# Altium schematic symbol library RF_Coupler.SchLib: 6 symbols
Pins are listed as number, name and electrical type; pins without a type are passive.

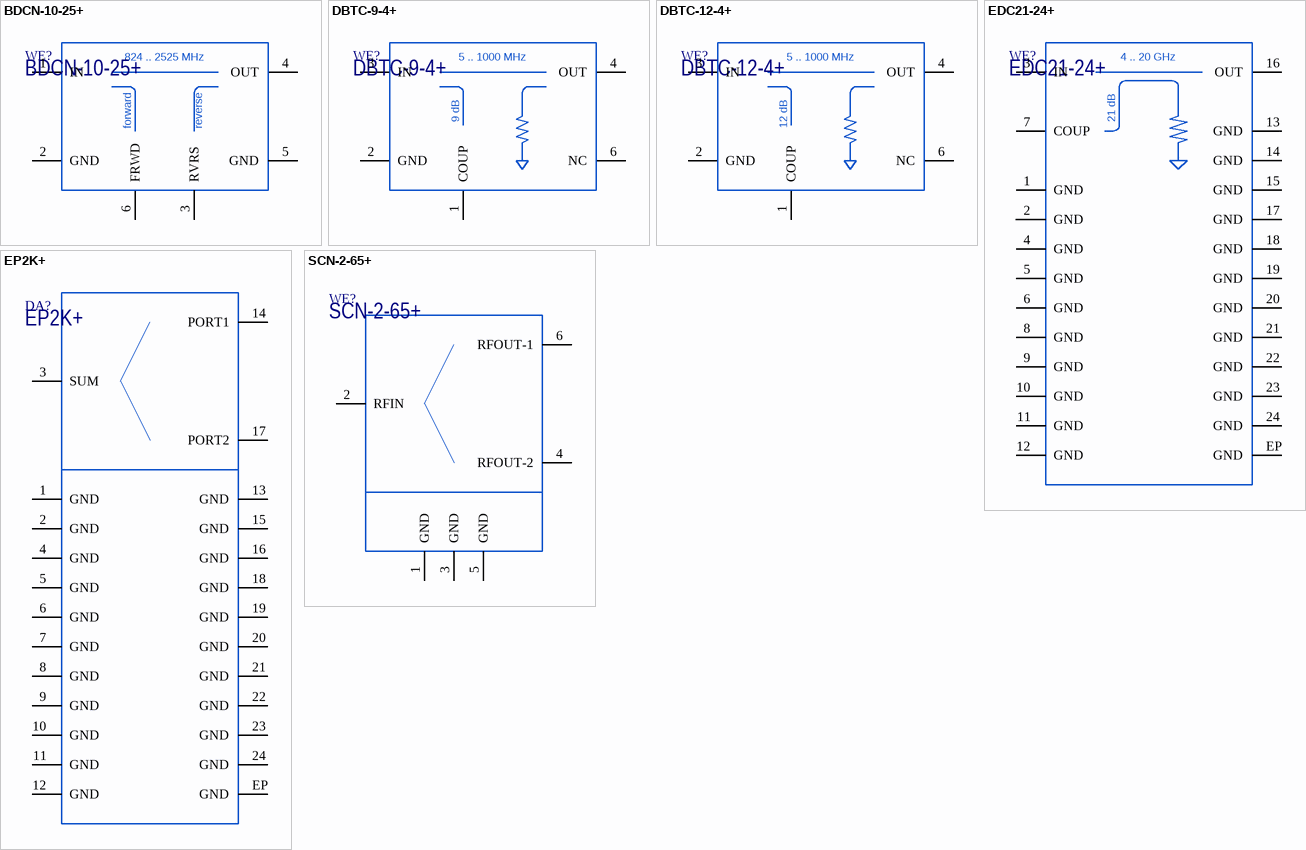
[diagram p0: symbols BDCN-10-25+ to SCN-2-65+]

## BDCN-10-25+
designator WE?
50Ω 10dB Bi-Directional Coupler 824 to 2525 MHz; Manufacturer: Mini-Circuits; PartNumber: BDCN-10-25+; Package: FV1206-1; ItemType: Coupler; ItemSubType: Coupler; Mounting: SMD
footprint FV1206-1 (Mini-Circuits FV1206-1 Case Style)
pins: 1 IN, 2 GND (power), 3 RVRS, 4 OUT, 5 GND (power), 6 FRWD
text: 824 .. 2525 MHz; forward; reverse

## DBTC-9-4+
designator WE?
50Ω 9dB coupling 5 to 1000 MHz; Manufacturer: Mini-Circuits; ItemType: Transformer; ItemSubType: Coupler; PartNumber: DBTC-9-4+; Package: AT790-1; Mounting: SMD
footprint AT790-1 (Minicircuits AT790-1 case style)
pins: 1 COUP, 2 GND (power), 3 IN, 4 OUT, 6 NC (hiz)
text: 5 .. 1000 MHz; 9 dB

## DBTC-12-4+
designator WE?
50Ω 12dB coupling 5 to 1000 MHz; Manufacturer: Mini-Circuits; ItemType: Transformer; ItemSubType: Coupler; PartNumber: DBTC-12-4+; Package: AT790-1; Mounting: SMD
footprint AT790-1 (Minicircuits AT790-1 case style)
pins: 1 COUP, 2 GND (power), 3 IN, 4 OUT, 6 NC (hiz)
text: 5 .. 1000 MHz; 12 dB

## EDC21-24+
designator WE?
50Ω 21dB Directional Coupler 4 to 20 GHz; Manufacturer: Mini-Circuits; ItemType: IC; PartNumber: EDC21-24+; Package: DG1847; ItemSubType: Coupler; Mounting: SMD
footprint DG1847 (Minicircuits DG1847 case style)
pins: 1 GND (power), 2 GND (power), 3 IN, 4 GND (power), 5 GND (power), 6 GND (power), 7 COUP, 8 GND (power), 9 GND (power), 10 GND (power), 11 GND (power), 12 GND (power), 13 GND (power), 14 GND (power), 15 GND (power), 16 OUT, 17 GND (power), 18 GND (power), 19 GND (power), 20 GND (power), 21 GND (power), 22 GND (power), 23 GND (power), 24 GND (power), EP GND (power)
text: 4 .. 20 GHz; 21 dB

## EP2K+
designator DA?
Power Splitter/Combiner 5 to 20 GHz; Manufacturer: Minicircuits; ItemType: IC; Package: DG1847; PartNumber: EP2K+; ItemSubType: Splitter/Combiner; Mounting: SMD
footprint DG1847 (Minicircuits DG1847 case style)
pins: 1 GND, 2 GND, 3 SUM, 4 GND, 5 GND, 6 GND, 7 GND, 8 GND, 9 GND, 10 GND, 11 GND, 12 GND, 13 GND, 14 PORT1, 15 GND, 16 GND, 17 PORT2, 18 GND, 19 GND, 20 GND, 21 GND, 22 GND, 23 GND, 24 GND, EP GND

## SCN-2-65+
designator WE?
Power Splitter/Combiner 2 Way-0° 50Ω 5500 to 6500 MHz; Manufacturer: Minicircuits; ItemType: IC; Package: FV1206-1; PartNumber: SCN-2-65+; ItemSubType: Splitter/Combiner; Mounting: SMD
footprint FV1206-1 (Mini-Circuits FV1206 Case Style)
pins: 1 GND, 2 RFIN, 3 GND, 4 RFOUT-2, 5 GND, 6 RFOUT-1